# Altium schematic symbol library 2228_AlarmeFenetre_Symbols.SchLib: 21 symbols
Pins are listed as number, name and electrical type; pins without a type are passive.

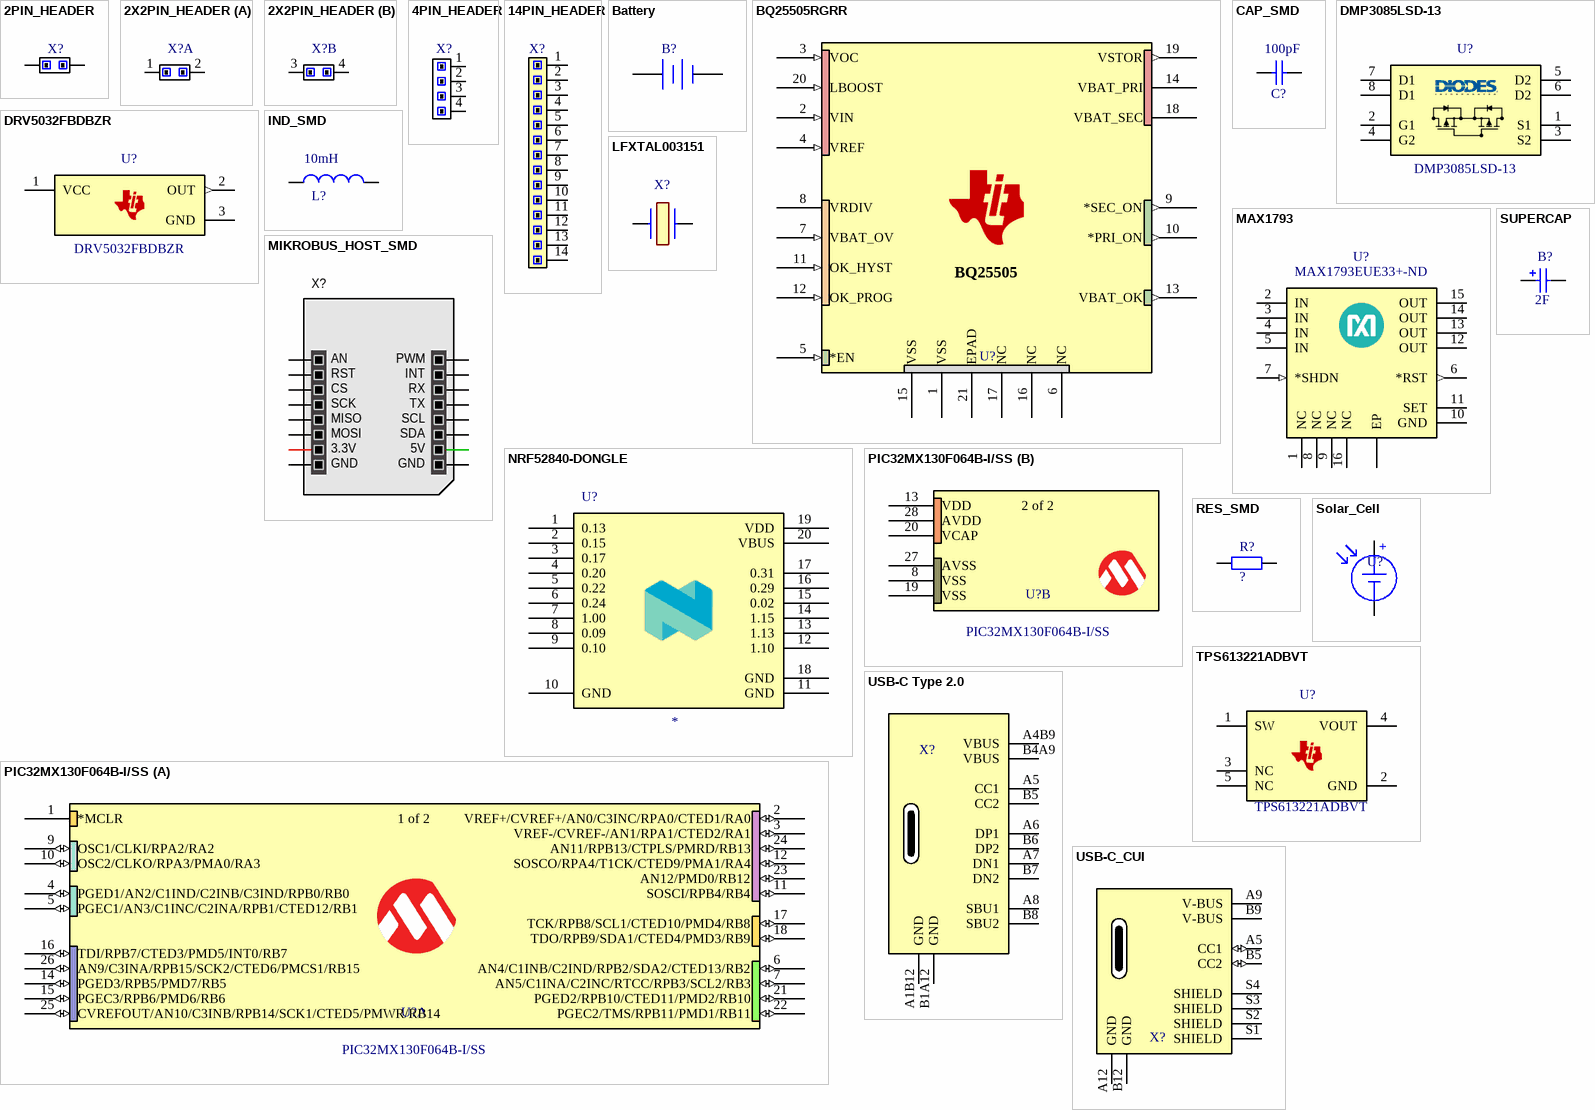
[diagram p0: symbols 2PIN_HEADER to USB-C_CUI]

## 2PIN_HEADER
designator X?  (value not drawn)
pins: 1, 2

## 2X2PIN_HEADER
designator X?  (value not drawn)
footprint 2x2_HEADER
part A pins: 1, 2
part B pins: 3, 4

## 4PIN_HEADER
designator X?  (value not drawn)
pins: 1, 2, 3, 4

## 14PIN_HEADER
designator X?  (value not drawn)
footprint HEADER_14PINS
pins: 1, 2, 3, 4, 5, 6, 7, 8, 9, 10, 11, 12, 13, 14

## Battery
designator B?
Multicell Battery
footprint AAA-2468
footprint WE_2PINS
pins: 1, 2

## BQ25505RGRR
designator U?  (value not drawn)
Low power energy harvester; Manufacturer: Texas Instruments; Manufacturer_Number: BQ25505RGRR
footprint RGR20_2P05X2P05_TEX
pins: 1 VSS (power), 2 VIN (in), 3 VOC (in), 4 VREF (in), 5 *EN (in), 6 NC, 7 VBAT_OV (in), 8 VRDIV (power), 9 *SEC_ON (out), 10 *PRI_ON (out), 11 OK_HYST (in), 12 OK_PROG (in), 13 VBAT_OK (out), 14 VBAT_PRI (power), 15 VSS (power), 16 NC, 17 NC, 18 VBAT_SEC (power), 19 VSTOR (out), 20 LBOOST (in), 21 EPAD
text: BQ25505

## CAP_SMD
designator C?  value 100pF
Ceramic capacitor; Manufacturer: *; Manufacturer_Number: *
pins: 1, 2

## DMP3085LSD-13
designator U?
Manufacturer: Diodes Inc; Manufacturer_Number: DMP3085LSD-13
footprint SO-8
pins: 1 S1, 2 G1, 3 S2, 4 G2, 5 D2, 6 D2, 7 D1, 8 D1

## DRV5032FBDBZR
designator U?
Manufacturer: Texas Instruments; Manufacturer_Number: DRV5032FBDBZR
footprint DBZ0003A_N
pins: 1 VCC (power), 2 OUT (out), 3 GND (power)

## IND_SMD
designator L?  value 10mH
Inductor SMD; Manufacturer: *; Manufacturer_Number: *
pins: 1, 2

## LFXTAL003151
designator X?, comment LFXTAL003151REEL  (value not drawn)
IQD FREQUENCY PRODUCTS - LFXTAL003151REEL - CRYSTAL, 8MHZ, 16PF, 11.4 X 4.9MM; Geometry.Height: 4.3mm; Manufacturer_Name: IQD; Manufacturer_Part_Number: LFXTAL003151REEL; Mouser Part Number: 449-LFXTAL003151REEL; Mouser Price/Stock: https://www.mouser.co.uk/ProductDetail/IQD/LFXTAL003151Reel?qs=e4%2FAndAAwgKt40cosvhepA%3D%3D; Arrow Part Number: LFXTAL003151REEL; Arrow Price/Stock: https://www.arrow.com/en/products/lfxtal003151reel/iqd-frequency-products?region=europe; Datasheet Link: https://www.iqdfrequencyproducts.com/products/pn/LFXTAL003151Reel.pdf
footprint LFXTAL003151
pins: 1, 2

## MAX1793
designator U?, comment Supplier Part Number 1: MAX1793EUE33+-ND  (hidden comment: MAX1793EUE33+)
Supplier 1: Digi-Key
footprint SOP65P638X110-17N
pins: 0 EP, 1 NC, 2 IN (power), 3 IN (power), 4 IN (power), 5 IN (power), 6 *RST (out), 7 *SHDN (in), 8 NC, 9 NC, 10 GND (power), 11 SET (power), 12 OUT (power), 13 OUT (power), 14 OUT (power), 15 OUT (power), 16 NC

## MIKROBUS_HOST_SMD
designator X?
Manufacturer: MikroElektronika; Manufacturer_Number: MIKROE-4319
footprint MIKROBUS HOST SMD 16 - Gray
pins: 1 AN, 2 RST, 3 CS, 4 SCK, 5 MISO, 6 MOSI, 7 3.3V, 8 GND, 9 GND, 10 5V, 11 SDA, 12 SCL, 13 TX, 14 RX, 15 INT, 16 PWM

## NRF52840-DONGLE
designator U?
Manufacturer: Nordic Semiconductor; Manufacturer_Number: NRF52840-DONGLE
pins: 1 0.13, 2 0.15, 3 0.17, 4 0.20, 5 0.22, 6 0.24, 7 1.00, 8 0.09, 9 0.10, 10 GND, 11 GND, 12 1.10, 13 1.13, 14 1.15, 15 0.02, 16 0.29, 17 0.31, 18 GND, 19 VDD, 20 VBUS

## PIC32MX130F064B-I/SS
designator U?
Manufacturer: Microchip; Manufacturer_Part_Number: PIC32MX130F064B-I/SS
footprint SSOP28_MC_MCH
part A pins: 1 *MCLR, 2 VREF+/CVREF+/AN0/C3INC/RPA0/CTED1/RA0 (io), 3 VREF-/CVREF-/AN1/RPA1/CTED2/RA1 (io), 4 PGED1/AN2/C1IND/C2INB/C3IND/RPB0/RB0 (io), 5 PGEC1/AN3/C1INC/C2INA/RPB1/CTED12/RB1 (io), 6 AN4/C1INB/C2IND/RPB2/SDA2/CTED13/RB2 (io), 7 AN5/C1INA/C2INC/RTCC/RPB3/SCL2/RB3 (io), 9 OSC1/CLKI/RPA2/RA2 (io), 10 OSC2/CLKO/RPA3/PMA0/RA3 (io), 11 SOSCI/RPB4/RB4 (io), 12 SOSCO/RPA4/T1CK/CTED9/PMA1/RA4 (io), 14 PGED3/RPB5/PMD7/RB5 (io), 15 PGEC3/RPB6/PMD6/RB6 (io), 16 TDI/RPB7/CTED3/PMD5/INT0/RB7 (io), 17 TCK/RPB8/SCL1/CTED10/PMD4/RB8 (io), 18 TDO/RPB9/SDA1/CTED4/PMD3/RB9 (io), 21 PGED2/RPB10/CTED11/PMD2/RB10 (io), 22 PGEC2/TMS/RPB11/PMD1/RB11 (io), 23 AN12/PMD0/RB12 (io), 24 AN11/RPB13/CTPLS/PMRD/RB13 (io), 25 CVREFOUT/AN10/C3INB/RPB14/SCK1/CTED5/PMWR/RB14 (io), 26 AN9/C3INA/RPB15/SCK2/CTED6/PMCS1/RB15 (io)
part B pins: 8 VSS (power), 13 VDD (power), 19 VSS (power), 20 VCAP (power), 27 AVSS (power), 28 AVDD (power)
part A text: 1 of 2
part B text: 2 of 2

## RES_SMD
designator R?
Manufacturer: *; Manufacturer_Number: *; Value: ?
pins: 1, 2

## Solar_Cell
designator U?
Anysolar KXOB25-05X3F; Manufacturer_Number: KXOB25-05X3F-TR; Manufacturer: Anysolar
pins: 1 + (power), 2 - (power)

## SUPERCAP
designator B?  value 2F
Polarized SuperCapacitor (Radial)
pins: 1, 2
1 alternate drawing of the same symbol

## TPS613221ADBVT
designator U?
Manufacturer: Texas Instruments; Manufacturer_Number: TPS613221ADBVT
footprint DBV0005A_N
pins: 1 SW (power), 2 GND (power), 3 NC, 4 VOUT (power), 5 NC

## USB-C Type 2.0
designator X?
Manufacturer: GCT; Manufacturer_Number: USB4105-GF-A
pins: A1B12 GND, A4B9 VBUS, A5 CC1, A6 DP1, A7 DN1, A8 SBU1, B1A12 GND, B4A9 VBUS, B5 CC2, B6 DP2, B7 DN2, B8 SBU2

## USB-C_CUI
designator X?, comment UJC-HP-3-SMT-TR  (value not drawn)
Type C, 3 A, Right Angle, Surface Mount (SMT), Power-Only USB Receptacle; Manufacturer: CUI Devices; Manufacturer_Number: UJC-HP-3-SMT-TR
footprint CUI_UJC-HP-3-SMT-TR
pins: A5 CC1 (io), A9 V-BUS (power), A12 GND (power), B5 CC2 (io), B9 V-BUS (power), B12 GND (power), S1 SHIELD, S2 SHIELD, S3 SHIELD, S4 SHIELD